# EAGLE library part X__JST_SH_LIEGEND_9 (library 16112011___connector)
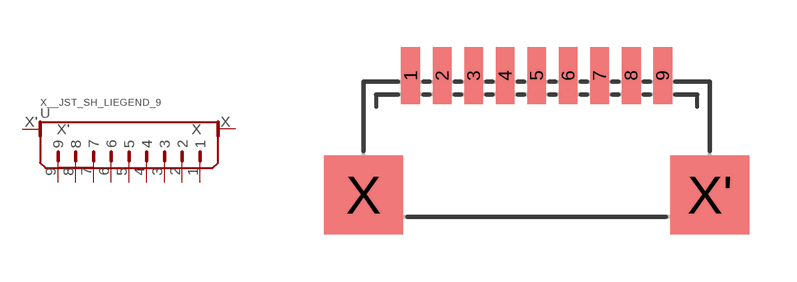
[diagram p32: symbol with the pads of JST_SH_LIEGEND_9; footprint JST_SH_LIEGEND_9]

Designator prefix -

## X__JST_SH_LIEGEND_9  [JST_SH_LIEGEND_9]
1  1
2  2
3  3
4  4
5  5
6  6
7  7
8  8
9  9
X  X
X'  X'

## Footprint JST_SH_LIEGEND_9 (pad centres in mm)
smd 0.6 x 1.8: 1 0,0; 2 1,0; 3 2,0; 4 3,0; 5 4,0; 6 5,0; 7 6,0; 8 7,0; 9 8,0
smd 2.5 x 2.5: X -1.5,-3.8; X' 9.5,-3.8